# Altium schematic symbol library Cap_Murata_GRM31CR61A107ME05L_100uF.SchLib: 1 symbol
Pins are listed as number, name and electrical type; pins without a type are passive.

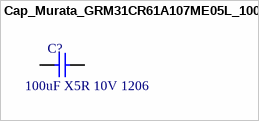
[diagram p0: symbol Cap_Murata_GRM31CR61A107ME05L_100uF]

## Cap_Murata_GRM31CR61A107ME05L_100uF
designator C?  Capacitance: 100uF X5R 10V 1206  (hidden comment: Cap_Murata_GRM31CR61A107ME05L_100uF)
CAP CER 100uF 25V X5R 1206; Supplier Part Number 1: 81-GRM31CR61A107ME5L; Supplier 1: Mouser
footprint Cap_Murata_GRM31CR61A107ME05L_100uF
pins: 1, 2